# EAGLE library part MAX6190BESA (library Octanis1_EPS)
MAX6190–MAX6195/MAX6198 Precision, Micropower, Low-Dropout Voltage References
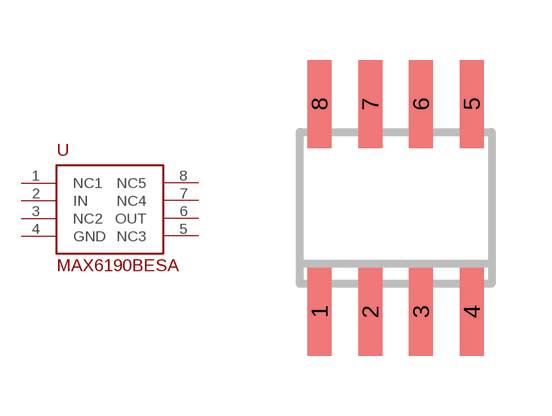
[diagram p10: symbol with the pads of SO8; footprint SO8]

Designator prefix -

## MAX6190BESA  [SO8]
1  NC1
2  IN
3  NC2
4  GND
5  NC3
6  OUT
7  NC4
8  NC5

## Footprint SO8 (pad centres in mm)
SMALL OUTLINE INTEGRATED CIRCUIT SOP-8L Source: http://www.diodes.com/datasheets/ds31262.pdf
smd 0.6 x 2.2: 1 -1.905,-2.6; 2 -0.635,-2.6; 3 0.635,-2.6; 4 1.905,-2.6; 5 1.905,2.6; 6 0.635,2.6; 7 -0.635,2.6; 8 -1.905,2.6